# Altium footprint library MY.PcbLib: 177 footprints (part 3 of 12)
Each footprint in its own frame and in the unit in brackets; x right, y up, seen from the top. Pads: shape width x height; smd on the part's side, far side on the other; paste and mask are expansions set on the pad; w line width, h text height; cw(c..) or ccw(c..) is an arc to the next point about the centre after c.
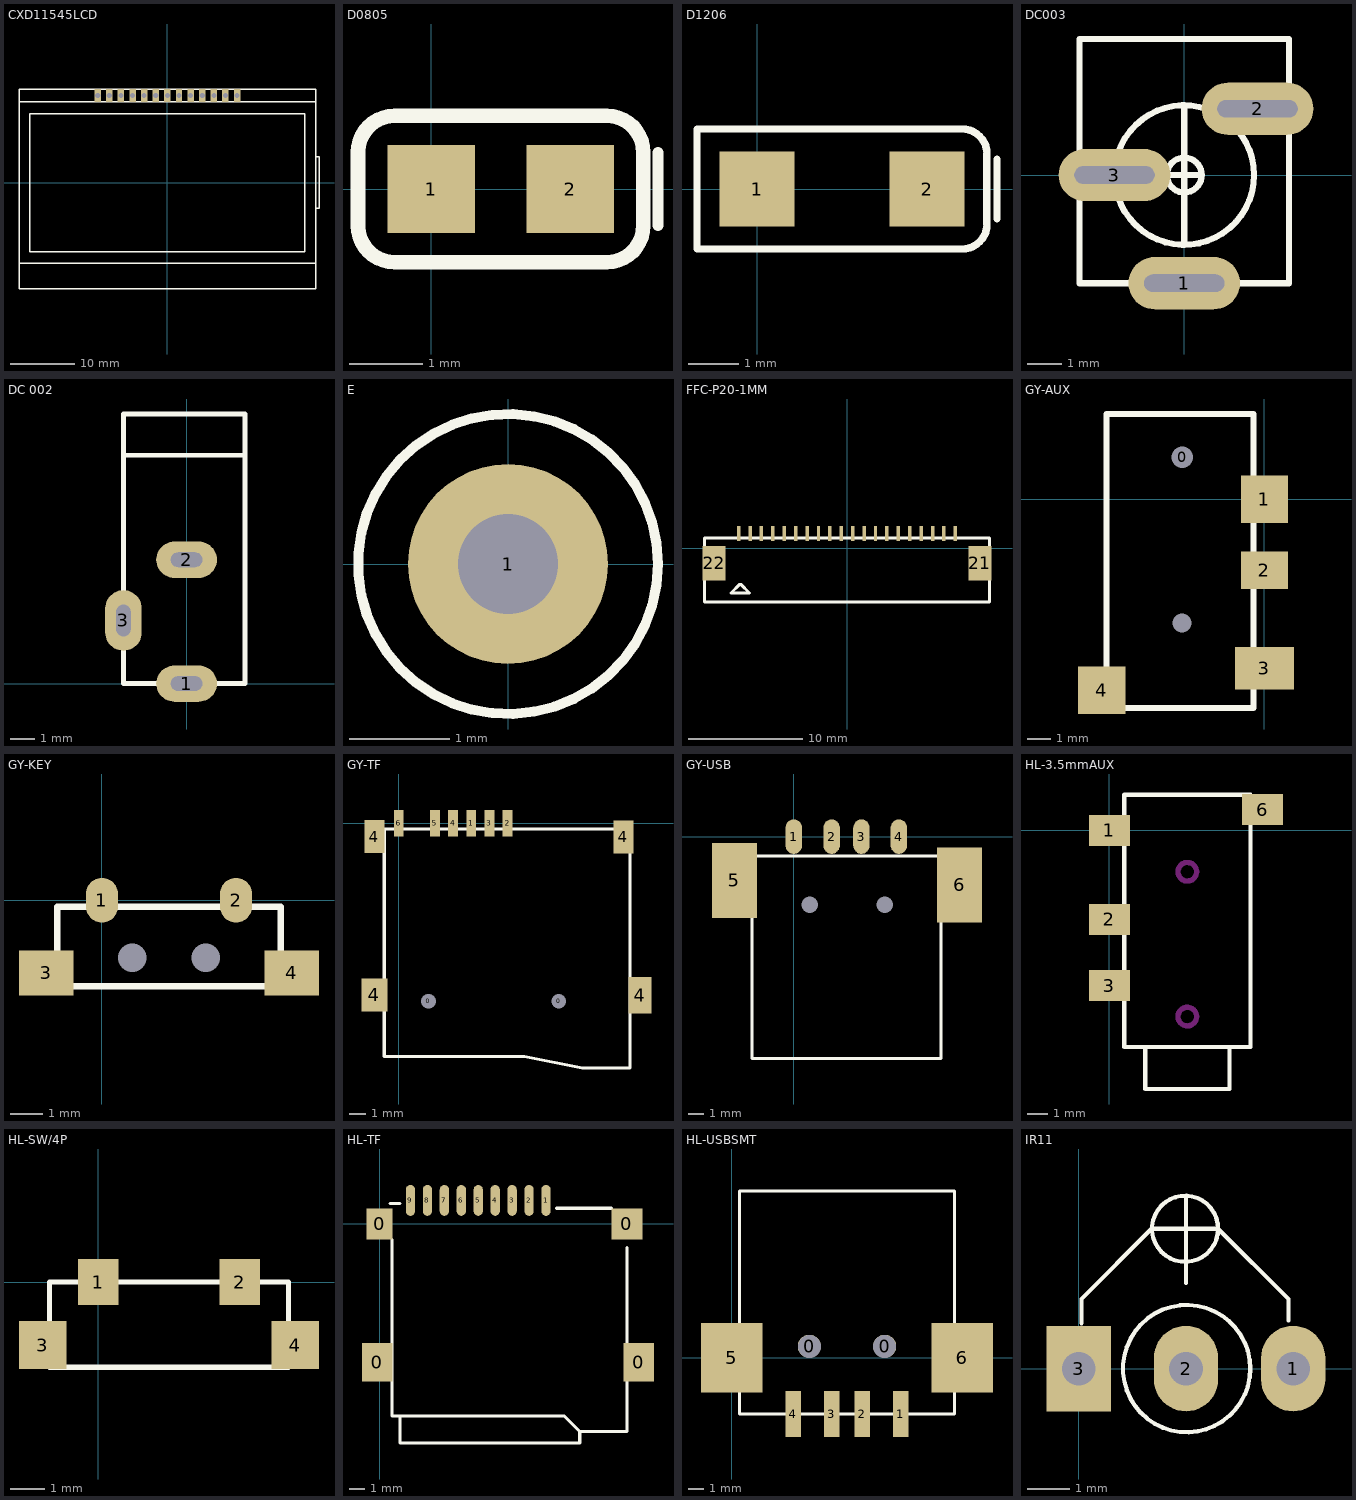
[diagram p2: the footprints below, top view; thin cyan lines are the x and y axes]

## CXD11545LCD [mm]
pads (13):
  rect 1x2 hole 0.8: 1(-10.8,13.5) 2(-9,13.5) 3(-7.2,13.5) 4(-5.4,13.5) 5(-3.6,13.5) 6(-1.8,13.5) 7(0,13.5) 8(1.8,13.5) 9(3.6,13.5) 10(5.4,13.5) 11(7.2,13.5) 12(9,13.5) 13(10.8,13.5)
Top Overlay:
  lines w0.2: -23,-12.5 23,-12.5 ; -23,12.5 23,12.5 ; 23,-4 23.5,-4 23.5,4 23,4 ; -23,-16.5 -23,14.5 23,14.5 23,-16.5 -23,-16.5 ; -21.3,-10.7 21.3,-10.7 21.3,10.7 -21.3,10.7 -21.3,-10.7

## D0805 [mm]
pads (2):
  rect 1.2x1.2 smd: 1(0,0) 2(1.9,0)
Top Overlay:
  lines w0.15: 3.1,-0.5 3.1,0.5
  lines w0.2: -1,-0.5 ccw(c-0.5,-0.5) -0.5,-1 2.4,-1 ccw(c2.4,-0.5) 2.9,-0.5 2.9,0.5 ccw(c2.4,0.5) 2.4,1 -0.5,1 ccw(c-0.5,0.5) -1,0.5 -1,-0.5

## D1206 [mm]
pads (2):
  rect 1.5x1.5 smd: 1(0,0) 2(3.4,0)
Top Overlay:
  lines w0.15: 4.8,-0.6 4.8,0.6 ; -1.2,-1.2 -1.2,1.2 4.1,1.2 cw(c4.1,0.7) 4.6,0.7 4.6,-0.7 cw(c4.1,-0.7) 4.1,-1.2 -1.2,-1.2

## DC003 [mm]
pads (3):
  oval 3.2x1.5 hole 0.5 slot 2.3 at 0 deg: 1(0,-3.1) 2(2.1,1.9) 3(-2,0)
Top Overlay:
  circle w0.178: c0,0 r0.5
  circle w0.178: c0,0 r2
  lines w0.178: -0.5,0 0.5,0 ; 0,-2 0,2 ; -3,-3.1 3,-3.1 3,3.9 -3,3.9 -3,-3.1

## DC 002 [mm]
pads (3):
  oval 2.5x1.5 hole 0.6 slot 1.3 at 0 deg: 1(0,0) 2(0,5.1)
  oval 1.5x2.5 hole 0.6 slot 1.3 at 90 deg: 3(-2.6,2.6)
Top Overlay:
  lines w0.2: -2.6,9.4 2.4,9.4 ; -2.6,0 -2.6,11.1 2.4,11.1 2.4,0 -2.6,0

## E [mm]
pads (1):
  round 2 hole 1: 1(0,0)
Top Overlay:
  circle w0.1: c0,0 r1.5

## FFC-P20-1MM [mm]
pads (22):
  rect 0.3x1.3 smd: 1(-9.5,1.3) 2(-8.5,1.3) 3(-7.5,1.3) 4(-6.5,1.3) 5(-5.5,1.3) 6(-4.5,1.3) 7(-3.5,1.3) 8(-2.5,1.3) 9(-1.5,1.3) 10(-0.5,1.3) 11(0.5,1.3) 12(1.5,1.3) 13(2.5,1.3) 14(3.5,1.3) 15(4.5,1.3) 16(5.5,1.3) 17(6.5,1.3) 18(7.5,1.3) 19(8.5,1.3) 20(9.5,1.3)
  rect 2x3 smd: 21(11.651,-1.3) 22(-11.651,-1.3)
Top Overlay:
  lines w0.254: -12.5,-4.7 -12.5,0.9 0,0.9 12.5,0.9 12.5,-4.7 6.9,-4.7 -12.5,-4.7 ; -10.16,-3.912 -9.398,-3.15 -9.322,-3.15 -8.56,-3.912 -10.16,-3.912

## GY-AUX [mm]
pads (6):
  rect 0x0 hole 0.8: 0(-3.48,-5.232)
  round 0.8 hole 0.9: 0(-3.48,1.778)
  rect 2x2 smd: 1(0,0) 4(-6.883,-8.077)
  rect 2x1.6 smd: 2(0,-2.997)
  rect 2.5x1.8 smd: 3(0,-7.137)
Top Overlay:
  lines w0.254: -6.68,-8.814 -6.68,3.607 -0.457,3.607 -0.457,-8.814 -6.68,-8.814

## GY-KEY [mm]
pads (6):
  round 0 hole 0.9: 0(0.95,-1.8) 0(3.25,-1.8)
  oval 1x1.4 smd: 1(0,0) 2(4.2,0)
  rect 1.7x1.4 smd: 3(-1.75,-2.28) 4(5.95,-2.28)
Top Overlay:
  lines w0.2: -1.4,-2.7 5.6,-2.7 5.6,-0.2 -1.4,-0.2 -1.4,-2.7

## GY-TF [mm]
pads (12):
  round 0.5 hole 0.9: 0(1.804,-10.802) 0(9.704,-10.802)
  rect 0.6x1.6 smd: 1(4.397,0) 2(6.599,0) 3(5.495,0) 4(3.299,0) 5(2.196,0) 6(0,0)
  rect 1.6x2 smd: 4(-1.47,-10.419)
  rect 1.2x2 smd: 4(-1.47,-0.824) 4(13.629,-0.829)
  rect 1.4x2.2 smd: 4(14.622,-10.431)
Top Overlay:
  lines w0.2: -0.871,-14.153 -0.871,-0.353 14.029,-0.353 14.029,-14.853 11.129,-14.853 7.629,-14.153 -0.871,-14.153

## GY-USB [mm]
pads (8):
  round 0 hole 1.1: 0(1.064,-4.54) 0(6.064,-4.54)
  oval 1.1x2.3 smd: 1(0,0) 2(2.519,0) 3(4.509,0) 4(7.006,0)
  rect 3x5 smd: 5(-3.958,-2.914) 6(11.049,-3.214)
Top Overlay:
  lines w0.2: -2.786,-14.804 -2.786,-1.301 9.822,-1.301 9.822,-14.804 -2.786,-14.804

## HL-3.5mmAUX [mm]
pads (4):
  rect 2x1.5 smd: 1(0,0) 2(0,-4.3) 3(0,-7.5) 6(7.4,1)
Top Overlay:
  lines w0.2: 1.732,-10.468 1.732,-12.5 5.796,-12.5 5.796,-10.473 ; 0.716,-10.468 6.812,-10.468 6.812,1.724 0.716,1.724 0.716,-10.468
Keep-Out Layer:
  circle w0.254: c3.764,-2 r0.45
  circle w0.254: c3.764,-9 r0.45

## HL-SW/4P [mm]
pads (4):
  rect 1.2x1.35 smd: 1(0,0) 2(4.15,0)
  rect 1.4x1.4 smd: 3(-1.625,-1.85) 4(5.775,-1.85)
Top Overlay:
  lines w0.15: -1.425,-2.5 5.575,-2.5 5.575,0 -1.425,0 -1.425,-2.5

## HL-TF [mm]
pads (13):
  rect 2x2.5 smd: 0(-0.15,-8.976) 0(16.822,-8.976)
  rect 1.7x2 smd: 0(0,0)
  rect 2x2 smd: 0(16.056,0)
  oval 0.6x2 smd: 1(10.804,1.524) 2(9.704,1.524) 3(8.604,1.524) 4(7.504,1.524) 5(6.404,1.524) 6(5.304,1.524) 7(4.204,1.524) 8(3.104,1.524) 9(2.004,1.524)
Top Overlay:
  lines w0.2: 0.686,1.321 1.324,1.321 ; 0.816,-1.016 0.816,-12.476 11.992,-12.476 12.992,-13.476 ; 1.324,-12.476 1.324,-14.224 12.992,-14.224 12.992,-13.476 ; 11.484,1.016 15.04,1.016 ; 16.072,-1.524 16.072,-13.476 12.992,-13.476

## HL-USBSMT [mm]
pads (8):
  round 1.5 hole 1.5: 0(5.05,0.75) 0(9.95,0.75)
  rect 1x3 smd: 1(11,-3.65) 2(8.5,-3.65) 3(6.5,-3.65) 4(4,-3.65)
  rect 4x4.5 smd: 5(0,0) 6(15,0)
Top Overlay:
  lines w0.2: 0.5,-3.65 14.5,-3.65 14.5,10.85 0.5,10.85 0.5,-3.65

## IR11 [mil]
pads (3):
  oval 60x80 hole 31.5: 1(200,0) 2(100,0)
  rect 60x80 hole 31.5: 3(0,0)
Top Overlay:
  circle w3.94: c100.59,0 r59.41
  circle w3.94: c99.13,130.55 r30.87
  lines w3.94: 2.36,42.36 2.36,65 67.91,130.55 130,130.55 195.55,65 195.55,45 ; 100,80 100,160